# Altium footprint library SparkFun-PowerIC.PCBLIB: 69 footprints (part 3 of 5)
Each footprint in its own frame and in the unit in brackets; x right, y up, seen from the top. Pads: shape width x height; smd on the part's side, far side on the other; paste and mask are expansions set on the pad; w line width, h text height; cw(c..) or ccw(c..) is an arc to the next point about the centre after c.
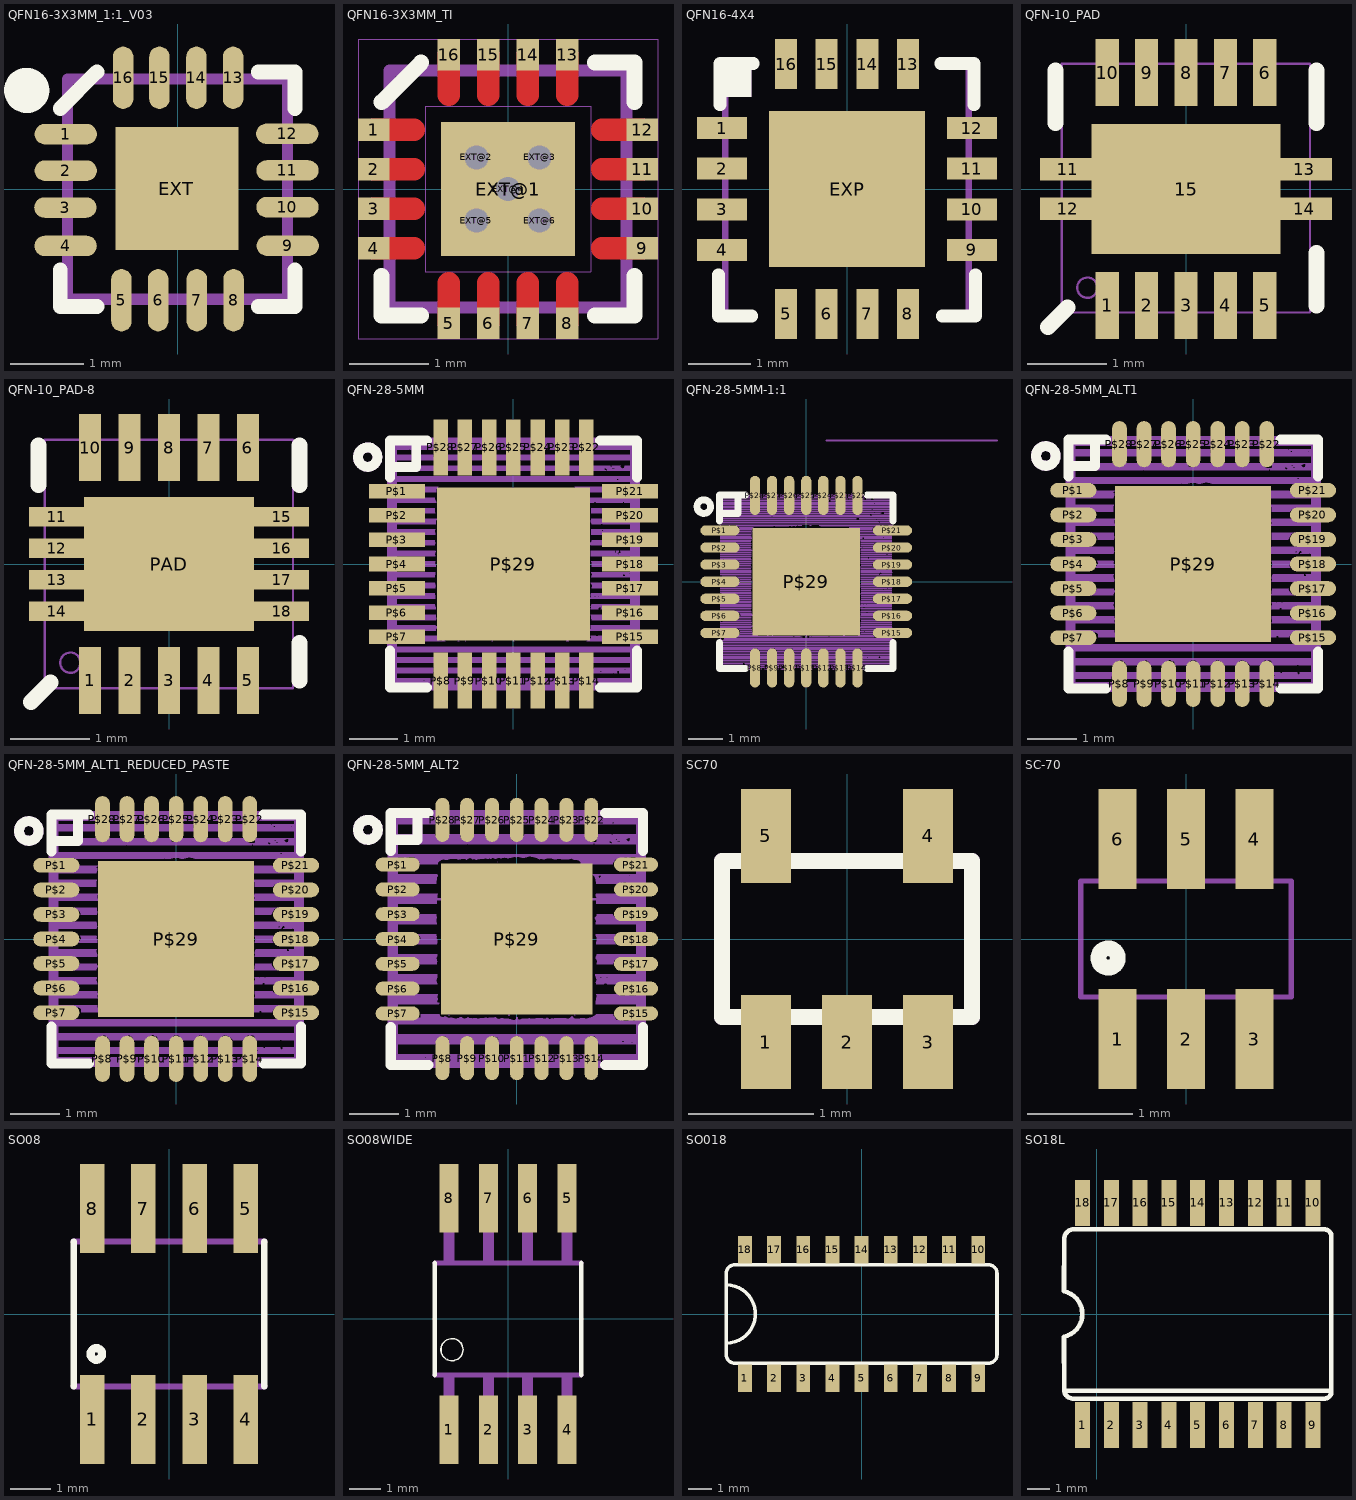
[diagram p2: the footprints below, top view; thin cyan lines are the x and y axes]

## QFN16-3X3MM_1:1_V03 [mm]
pads (17):
  rrect100% 0.85x0.28 smd: 1(-1.524,0.75) 2(-1.524,0.252) 3(-1.529,-0.25) 4(-1.527,-0.774) 9(1.503,-0.77) 10(1.498,-0.245) 11(1.498,0.255) 12(1.495,0.755)
  rrect100% 0.28x0.85 smd: 5(-0.765,-1.513) 6(-0.265,-1.513) 7(0.263,-1.513) 8(0.763,-1.513) 13(0.758,1.518) 14(0.258,1.518) 15(-0.247,1.518) 16(-0.742,1.518)
  rect 1.68x1.68 smd: EXT(-0.009,0.008)
Top Overlay:
  circle w0.406: c-2.057,1.346 r0.105
  lines w0.203: -1.6,-1.1 -1.6,-1.6 -1.1,-1.6 ; -1.6,1.1 -1.1,1.6 ; 1.1,-1.6 1.6,-1.6 1.6,-1.1 ; 1.1,1.6 1.6,1.6 1.6,1.1
Top Paste:
  rectangle: -0.305,-0.305 0.279,0.279
  lines w0.203: -1.853,-0.773 -1.407,-0.773 ; -1.853,-0.25 -1.406,-0.25 ; -1.851,0.252 -1.404,0.252 ; -1.85,0.751 -1.403,0.751 ; -0.765,-1.838 -0.765,-1.391 ; -0.742,1.396 -0.742,1.843 ; -0.265,-1.838 -0.265,-1.391 ; -0.247,1.399 -0.247,1.846 ; 0.258,1.399 0.258,1.846 ; 0.26,-1.838 0.26,-1.391 ; 0.758,1.396 0.758,1.843 ; 0.763,-1.841 0.763,-1.394 ; 1.399,-0.245 1.82,-0.245 ; 1.399,0.255 1.82,0.255 ; 1.402,0.755 1.818,0.755 ; 1.407,-0.768 1.828,-0.768
Mechanical 16:
  lines w0.152: -1.5,-1.5 -1.5,1.5 1.5,1.5 1.5,-1.5 -1.5,-1.5

## QFN16-3X3MM_TI [mm]
pads (22):
  rect 0.4x0.28 smd: 1(-1.7,0.75) 2(-1.7,0.25) 3(-1.7,-0.25) 4(-1.7,-0.75) 9(1.7,-0.75) 10(1.7,-0.25) 11(1.7,0.25) 12(1.7,0.75)
  rect 0.28x0.4 smd: 5(-0.75,-1.7) 6(-0.25,-1.7) 7(0.25,-1.7) 8(0.75,-1.7) 13(0.75,1.7) 14(0.25,1.7) 15(-0.25,1.7) 16(-0.75,1.7)
  rect 1.7x1.7 smd: EXT@1(0,0)
  oct 0.45x0.45 hole 0.3: EXT@2(-0.4,0.4) EXT@3(0.4,0.4) EXT@4(0,0) EXT@5(-0.4,-0.4) EXT@6(0.4,-0.4)
Top Layer:
  lines w0.28: -1.7,-0.75 -1.19,-0.75 ; -1.7,-0.25 -1.19,-0.25 ; -1.7,0.25 -1.19,0.25 ; -1.7,0.75 -1.19,0.75 ; -0.75,-1.7 -0.75,-1.19 ; -0.75,1.19 -0.75,1.7 ; -0.25,-1.7 -0.25,-1.19 ; -0.25,1.19 -0.25,1.7 ; 0.25,-1.7 0.25,-1.19 ; 0.25,1.19 0.25,1.7 ; 0.75,-1.7 0.75,-1.19 ; 0.75,1.19 0.75,1.7 ; 1.19,-0.75 1.7,-0.75 ; 1.19,-0.25 1.7,-0.25 ; 1.19,0.25 1.7,0.25 ; 1.19,0.75 1.7,0.75
Top Overlay:
  lines w0.203: -1.6,-1.1 -1.6,-1.6 -1.1,-1.6 ; -1.6,1.1 -1.1,1.6 ; 1.1,-1.6 1.6,-1.6 1.6,-1.1 ; 1.1,1.6 1.6,1.6 1.6,1.1
Top Paste:
  rectangle: 0.1,0.1 0.8,0.8
  rectangle: 0.1,-0.8 0.8,-0.1
  rectangle: -0.8,-0.8 -0.1,-0.1
  rectangle: -0.8,0.1 -0.1,0.8
  region: 0,0 0.254,0 0.254,0.254 0,0.254
  region: 0,0 0.254,0 0.254,0.254 0,0.254
  region: 0,0 0.254,0 0.254,0.254 0,0.254
  region: 0,0 0.254,0 0.254,0.254 0,0.254
  region: 0,0 0.254,0 0.254,0.254 0,0.254
  region: 0,0 0.254,0 0.254,0.254 0,0.254
  region: 0,0 0.254,0 0.254,0.254 0,0.254
  region: 0,0 0.254,0 0.254,0.254 0,0.254
  region: 0,0 0.254,0 0.254,0.254 0,0.254
  region: 0,0 0.254,0 0.254,0.254 0,0.254
  region: 0,0 0.254,0 0.254,0.254 0,0.254
  region: 0,0 0.254,0 0.254,0.254 0,0.254
  region: 0,0 0.254,0 0.254,0.254 0,0.254
  region: 0,0 0.254,0 0.254,0.254 0,0.254
  region: 0,0 0.254,0 0.254,0.254 0,0.254
  region: 0,0 0.254,0 0.254,0.254 0,0.254
Top Solder:
  rectangle: -0.93,-0.92 0.91,0.92
  region: 0,0 0.254,0 0.254,0.254 0,0.254
  region: 0,0 0.254,0 0.254,0.254 0,0.254
  region: 0,0 0.254,0 0.254,0.254 0,0.254
  region: 0,0 0.254,0 0.254,0.254 0,0.254
  region: 0,0 0.254,0 0.254,0.254 0,0.254
  region: 0,0 0.254,0 0.254,0.254 0,0.254
  region: 0,0 0.254,0 0.254,0.254 0,0.254
  region: 0,0 0.254,0 0.254,0.254 0,0.254
  region: 0,0 0.254,0 0.254,0.254 0,0.254
  region: 0,0 0.254,0 0.254,0.254 0,0.254
  region: 0,0 0.254,0 0.254,0.254 0,0.254
  region: 0,0 0.254,0 0.254,0.254 0,0.254
  region: 0,0 0.254,0 0.254,0.254 0,0.254
  region: 0,0 0.254,0 0.254,0.254 0,0.254
  region: 0,0 0.254,0 0.254,0.254 0,0.254
  region: 0,0 0.254,0 0.254,0.254 0,0.254
Mechanical 14:
  lines w0: -1.9,-1.9 1.9,-1.9 1.9,1.9 -1.9,1.9 -1.9,-1.9 ; -1.05,-1.05 -1.05,1.05 1.05,1.05 1.05,-1.05 -1.05,-1.05
Mechanical 16:
  lines w0.152: -1.5,-1.5 -1.5,1.5 1.5,1.5 1.5,-1.5 -1.5,-1.5

## QFN16-4X4 [mm]
pads (17):
  rect 0.8x0.35 smd: 1(-2,0.975) 2(-2,0.325) 3(-2,-0.325) 4(-2,-0.975) 9(2,-0.975) 10(2,-0.325) 11(2,0.325) 12(2,0.975)
  rect 0.35x0.8 smd: 5(-0.975,-2) 6(-0.325,-2) 7(0.325,-2) 8(0.975,-2) 13(0.975,2) 14(0.325,2) 15(-0.325,2) 16(-0.975,2)
  rect 2.5x2.5 smd: EXP(0,0)
Top Overlay:
  rectangle: -1.95,1.475 -1.525,1.925
  lines w0.203: -2.057,-1.372 -2.057,-2.032 -1.524,-2.032 ; -2.032,1.346 -2.032,2.007 -1.499,2.007 ; 1.499,2.007 2.032,2.007 2.032,1.346 ; 1.524,-2.032 2.057,-2.032 2.057,-1.372
Top Paste:
  rectangle: -1,0.2 -0.2,1
  rectangle: 0.2,0.2 1,1
  rectangle: 0.2,-1 1,-0.2
  rectangle: -1,-1 -0.2,-0.2
Top Solder:
  rectangle: -1.3,-1.3 1.3,1.3
Mechanical 16:
  rectangle: -1.95,1.475 -1.525,1.925
  lines w0.102: -1.95,-1.95 -1.95,1.925 ; 1.95,-1.95 1.95,1.925

## QFN-10_PAD [mm]
pads (15):
  rect 0.297x0.85 smd: 1(-1,-1.475) 2(-0.5,-1.475) 3(0,-1.475) 4(0.5,-1.475) 5(1,-1.475) 6(1,1.475) 7(0.5,1.475) 8(0,1.475) 9(-0.5,1.475) 10(-1,1.475)
  rect 0.7x0.28 smd: 11(-1.5,0.25) 12(-1.5,-0.25) 13(1.5,0.25) 14(1.5,-0.25)
  rect 2.4x1.65 smd: 15(0,0)
Top Overlay:
  lines w0.203: -1.75,-1.75 -1.5,-1.5 ; -1.651,0.838 -1.651,1.499 ; 1.651,-1.473 1.651,-0.813 ; 1.651,0.838 1.651,1.499
Top Paste:
  rectangle: -1.194,-0.432 1.194,0.432
  rectangle: -1.125,1.074 -0.876,1.88
  rectangle: -0.625,1.072 -0.376,1.877
  rectangle: -0.625,1.072 -0.376,1.877
  rectangle: -0.124,1.069 0.124,1.875
  rectangle: 0.376,1.072 0.625,1.877
  rectangle: 0.879,1.074 1.128,1.88
  rectangle: -1.125,-1.877 -0.876,-1.072
  rectangle: -0.625,-1.88 -0.376,-1.074
  rectangle: -0.124,-1.877 0.124,-1.072
  rectangle: 0.376,-1.872 0.625,-1.067
  rectangle: 0.876,-1.877 1.125,-1.072
Mechanical 16:
  circle w0.03: c-1.25,-1.25 r0.129
  lines w0.03: -1.575,-1.565 1.57,-1.565 1.57,1.585 -1.575,1.585 -1.575,-1.565

## QFN-10_PAD-8 [mm]
pads (19):
  rect 0.28x0.85 smd: 1(-1,-1.475) 2(-0.5,-1.475) 3(0,-1.475) 4(0.5,-1.475) 5(1,-1.475) 6(1,1.475) 7(0.5,1.475) 8(0,1.475) 9(-0.5,1.475) 10(-1,1.475)
  rect 0.7x0.25 smd: 11(-1.425,0.6) 12(-1.425,0.2) 13(-1.425,-0.2) 14(-1.425,-0.6) 15(1.425,0.6) 16(1.425,0.2) 17(1.425,-0.2) 18(1.425,-0.6)
  rect 2.15x1.7 smd: PAD(0,0)
Top Overlay:
  lines w0.203: -1.75,-1.75 -1.5,-1.5 ; -1.651,1 -1.651,1.499 ; 1.651,-1.473 1.651,-1 ; 1.651,1 1.651,1.499
Top Paste:
  rectangle: 0.11,0.11 1.01,0.76
  rectangle: 0.11,-0.76 1.01,-0.11
  rectangle: -1.01,0.11 -0.11,0.76
  rectangle: -1.01,-0.76 -0.11,-0.11
  rectangle: 1.16,-0.315 1.76,-0.085
  rectangle: 1.16,0.085 1.76,0.315
  rectangle: -1.76,0.085 -1.16,0.315
  rectangle: -1.76,-0.315 -1.16,-0.085
  rectangle: 1.16,0.485 1.76,0.715
  rectangle: 1.16,-0.715 1.76,-0.485
  rectangle: -1.76,0.485 -1.16,0.715
  rectangle: -1.76,-0.715 -1.16,-0.485
Mechanical 16:
  circle w0.03: c-1.25,-1.25 r0.129
  lines w0.03: -1.575,-1.575 1.57,-1.575 1.57,1.575 -1.575,1.575 -1.575,-1.575

## QFN-28-5MM [mm]
pads (29):
  rect 1.15x0.3 smd: P$1(-2.4,1.5) P$2(-2.4,1) P$3(-2.4,0.5) P$4(-2.4,0) P$5(-2.4,-0.5) P$6(-2.4,-1) P$7(-2.4,-1.5) P$15(2.4,-1.5) P$16(2.4,-1) P$17(2.4,-0.5) P$18(2.4,0) P$19(2.4,0.5) P$20(2.4,1) P$21(2.4,1.5)
  rect 0.3x1.15 smd: P$8(-1.5,-2.4) P$9(-1,-2.4) P$10(-0.5,-2.4) P$11(0,-2.4) P$12(0.5,-2.4) P$13(1,-2.4) P$14(1.5,-2.4) P$22(1.5,2.4) P$23(1,2.4) P$24(0.5,2.4) P$25(0,2.4) P$26(-0.5,2.4) P$27(-1,2.4) P$28(-1.5,2.4)
  rect 3.15x3.15 smd: P$29(0,0)
Top Overlay:
  circle w0.203: c-3,2.2 r0.2
  lines w0.203: -2.54,-1.778 -2.54,-2.54 -1.778,-2.54 ; -2.54,1.778 -2.54,2.54 -1.778,2.54 ; -2.5,2 -2,2 -2,2.5 ; 1.778,-2.54 2.54,-2.54 2.54,-1.778 ; 1.778,2.54 2.54,2.54 ; 2.54,1.778 2.54,2.5
Top Paste:
  rectangle: -1.016,0.254 -0.254,1.016
  rectangle: 0.254,0.254 1.016,1.016
  rectangle: -1.016,-1.016 -0.254,-0.254
  rectangle: 0.254,-1.016 1.016,-0.254
Mechanical 16:
  circle w0.203: c-3,2.2 r0.2
  lines w0.203: -2.5,2 -2.5,2.5 -2,2.5 ; -2.5,2 -2.5,-2.5 2.5,-2.5 2.5,2.5 -2,2.5 ; -2.5,2 -2,2 -2,2.5
Mech82:
  drawing of 2255 lines, arcs and shapes, not listed

## QFN-28-5MM-1:1 [mm]
pads (29):
  rrect100% 1.15x0.3 smd: P$1(-2.527,1.5) P$2(-2.527,1) P$3(-2.527,0.5) P$4(-2.527,0) P$5(-2.527,-0.5) P$6(-2.527,-1) P$7(-2.527,-1.5) P$15(2.527,-1.5) P$16(2.527,-1) P$17(2.527,-0.5) P$18(2.527,0) P$19(2.527,0.5) P$20(2.527,1) P$21(2.527,1.5)
  rrect100% 0.3x1.15 smd: P$8(-1.5,-2.527) P$9(-1,-2.527) P$10(-0.5,-2.527) P$11(0,-2.527) P$12(0.5,-2.527) P$13(1,-2.527) P$14(1.5,-2.527) P$22(1.5,2.527) P$23(1,2.527) P$24(0.5,2.527) P$25(0,2.527) P$26(-0.5,2.527) P$27(-1,2.527) P$28(-1.5,2.527)
  rect 3.15x3.15 smd: P$29(0,0)
Top Overlay:
  circle w0.203: c-3,2.2 r0.2
  lines w0.203: -2.54,-1.778 -2.54,-2.54 -1.778,-2.54 ; -2.54,1.778 -2.54,2.54 -1.778,2.54 ; -2.5,2 -2,2 -2,2.5 ; 1.778,-2.54 2.54,-2.54 2.54,-1.778 ; 1.778,2.54 2.54,2.54 ; 2.54,1.778 2.54,2.5
Top Paste:
  rectangle: -1.016,0.254 -0.254,1.016
  rectangle: 0.254,0.254 1.016,1.016
  rectangle: -1.016,-1.016 -0.254,-0.254
  rectangle: 0.254,-1.016 1.016,-0.254
Mechanical 14:
  lines w0.051: 0.584,4.139 5.588,4.139
Mech82:
  drawing of 3628 lines, arcs and shapes, not listed

## QFN-28-5MM_ALT1 [mil]
pads (29):
  rrect100% 37x11.81 smd: P$1(-96.06,59.06) P$2(-96.06,39.37) P$3(-96.06,19.69) P$4(-96.06,0) P$5(-96.06,-19.69) P$6(-96.06,-39.37) P$7(-96.06,-59.06) P$15(96.06,-59.06) P$16(96.06,-39.37) P$17(96.06,-19.69) P$18(96.06,0) P$19(96.06,19.69) P$20(96.06,39.37) P$21(96.06,59.06)
  rrect100% 11.81x37 smd: P$8(-59.06,-96.06) P$9(-39.37,-96.06) P$10(-19.69,-96.06) P$11(0,-96.06) P$12(19.69,-96.06) P$13(39.37,-96.06) P$14(59.06,-96.06) P$22(59.06,96.06) P$23(39.37,96.06) P$24(19.69,96.06) P$25(0,96.06) P$26(-19.69,96.06) P$27(-39.37,96.06) P$28(-59.06,96.06)
  rect 125x125 smd: P$29(0,0)
Top Overlay:
  circle w8: c-118.11,86.61 r7.87
  lines w8: -100,-70 -100,-100 -70,-100 ; -100,70 -100,100 -70,100 ; -98.43,78.74 -78.74,78.74 -78.74,98.43 ; 70,-100 100,-100 100,-70 ; 70,100 100,100 ; 100,70 100,98.43
Top Paste:
  region: 13.5,-13.5 13.5,13.5 -13.5,13.5 -13.5,-13.5
Mechanical 14:
  lines w1.97: -101.22,31.58 95.63,31.58
Mechanical 16:
  circle w8: c-118.11,86.61 r7.87
  lines w8: -98.43,78.74 -98.43,98.43 -78.74,98.43 ; -98.43,78.74 -98.43,-98.43 98.43,-98.43 98.43,98.43 -78.74,98.43 ; -98.43,78.74 -78.74,78.74 -78.74,98.43
Mech82:
  drawing of 2254 lines, arcs and shapes, not listed

## QFN-28-5MM_ALT1_REDUCED_PASTE [mil]
pads (29):
  rrect100% 37x11.81 smd: P$1(-96.06,59.06) P$2(-96.06,39.37) P$3(-96.06,19.69) P$4(-96.06,0) P$5(-96.06,-19.69) P$6(-96.06,-39.37) P$7(-96.06,-59.06) P$15(96.06,-59.06) P$16(96.06,-39.37) P$17(96.06,-19.69) P$18(96.06,0) P$19(96.06,19.69) P$20(96.06,39.37) P$21(96.06,59.06)
  rrect100% 11.81x37 smd: P$8(-59.06,-96.06) P$9(-39.37,-96.06) P$10(-19.69,-96.06) P$11(0,-96.06) P$12(19.69,-96.06) P$13(39.37,-96.06) P$14(59.06,-96.06) P$22(59.06,96.06) P$23(39.37,96.06) P$24(19.69,96.06) P$25(0,96.06) P$26(-19.69,96.06) P$27(-39.37,96.06) P$28(-59.06,96.06)
  rect 125x125 smd: P$29(0,0)
Top Overlay:
  circle w8: c-118.11,86.61 r7.87
  lines w8: -100,-70 -100,-100 -70,-100 ; -100,70 -100,100 -70,100 ; -98.43,78.74 -78.74,78.74 -78.74,98.43 ; 70,-100 100,-100 100,-70 ; 70,100 100,100 ; 100,70 100,98.43
Top Paste:
  rectangle: -32.7,-33.4 -11.4,-12.5
  rectangle: 11.6,-33.3 32.9,-12.4
  rectangle: -33.1,13.1 -11.8,34
  rectangle: 12.8,14 34.1,34.9
  lines w10: -105.9,19.8 -83.7,19.8 ; -105.8,-59 -83.6,-59 ; -105.8,-19.5 -83.6,-19.5 ; -105.8,0.1 -83.6,0.1 ; -105.7,39.5 -83.5,39.5 ; -105.6,-39.2 -83.4,-39.2 ; -105.6,59.3 -83.4,59.3 ; -59.2,-105.2 -59.2,-83 ; -59.2,83.4 -59.2,105.6 ; -39.4,-105.4 -39.4,-83.2 ; -39.4,83.2 -39.4,105.4 ; -19.7,-105.2 -19.7,-83 ; -19.7,83.4 -19.7,105.6 ; -0.1,-105.2 -0.1,-83 ; -0.1,83.4 -0.1,105.6 ; 19.6,-105.1 19.6,-82.9 ; 19.6,83.5 19.6,105.7 ; 39.3,-105.3 39.3,-83.1 ; 39.3,83.3 39.3,105.5 ; 59.1,-105.4 59.1,-83.2 ; 59.1,83.2 59.1,105.4 ; 83,19.7 105.2,19.7 ; 83.1,-59.1 105.3,-59.1 ; 83.1,-19.6 105.3,-19.6 ; 83.1,0 105.3,0 ; 83.2,39.4 105.4,39.4 ; 83.3,-39.3 105.5,-39.3 ; 83.3,59.2 105.5,59.2
Mechanical 14:
  lines w1.97: -101.22,31.58 95.63,31.58
Mechanical 16:
  circle w8: c-118.11,86.61 r7.87
  lines w8: -98.43,78.74 -98.43,98.43 -78.74,98.43 ; -98.43,78.74 -98.43,-98.43 98.43,-98.43 98.43,98.43 -78.74,98.43 ; -98.43,78.74 -78.74,78.74 -78.74,98.43
Mech82:
  drawing of 2254 lines, arcs and shapes, not listed

## QFN-28-5MM_ALT2 [mil]
pads (29):
  rrect100% 35x11.02 smd: P$1(-94.52,59.06) P$2(-94.52,39.37) P$3(-94.52,19.69) P$4(-94.52,0) P$5(-94.52,-19.69) P$6(-94.52,-39.37) P$7(-94.52,-59.06) P$15(94.52,-59.06) P$16(94.52,-39.37) P$17(94.52,-19.69) P$18(94.52,0) P$19(94.52,19.69) P$20(94.52,39.37) P$21(94.52,59.06)
  rrect100% 11.02x35 smd: P$8(-59.06,-94.52) P$9(-39.37,-94.52) P$10(-19.69,-94.52) P$11(0,-94.52) P$12(19.69,-94.52) P$13(39.37,-94.52) P$14(59.06,-94.52) P$22(59.06,94.52) P$23(39.37,94.52) P$24(19.69,94.52) P$25(0,94.52) P$26(-19.69,94.52) P$27(-39.37,94.52) P$28(-59.06,94.52)
  rect 120x120 smd: P$29(0,0)
Top Overlay:
  circle w8: c-118.11,86.61 r7.87
  lines w8: -100,-70 -100,-100 -70,-100 ; -100,70 -100,100 -70,100 ; -98.43,78.74 -78.74,78.74 -78.74,98.43 ; 70,-100 100,-100 100,-70 ; 70,100 100,100 ; 100,70 100,98.43
Top Paste:
  rectangle: -55,5 -5,55
  rectangle: 5,5 55,55
  rectangle: -55,-55 -5,-5
  rectangle: 5,-55 55,-5
Mechanical 14:
  lines w1.97: -98.72,31.58 98.13,31.58
Mechanical 16:
  circle w8: c-118.11,86.61 r7.87
  lines w8: -98.43,78.74 -98.43,98.43 -78.74,98.43 ; -98.43,78.74 -98.43,-98.43 98.43,-98.43 98.43,98.43 -78.74,98.43 ; -98.43,78.74 -78.74,78.74 -78.74,98.43
Mech82:
  drawing of 2255 lines, arcs and shapes, not listed

## SC70 [mm]
pads (5):
  rect 0.4x0.75 smd: 1(-0.65,-0.825) 2(0,-0.825) 3(0.65,-0.825) 4(0.65,0.825) 5(-0.65,0.825)
Top Overlay:
  lines w0.127: -1,-0.625 1,-0.625 1,0.625 -1,0.625 -1,-0.625
Top Paste:
  rectangle: -0.85,0.45 -0.45,1.2
  rectangle: 0.45,0.45 0.85,1.2
  rectangle: -0.838,-1.168 -0.508,-0.483
  rectangle: -0.165,-1.168 0.165,-0.483
  rectangle: 0.508,-1.168 0.838,-0.483
Mechanical 16:
  lines w0.127: -1,-0.625 -1,0.625 1,0.625 1,-0.625 ; -1,-0.625 1,-0.625 ; -1,-0.625 1,-0.625

## SC-70 [mm]
pads (6):
  rect 0.36x0.95 smd: 1(-0.65,-0.95) 2(0,-0.95) 3(0.65,-0.95) 4(0.65,0.95) 5(0,0.95) 6(-0.65,0.95)
Top Overlay:
  circle w0.15: c-0.74,-0.18 r0.092
Mechanical 16:
  lines w0.05: -1,-0.55 1,-0.55 1,0.55 -1,0.55 -1,-0.55

## SO08 [mil]
pads (8):
  rect 24x87 smd: 1(-75,-103) 2(-25,-103) 3(25,-103) 4(75,-103) 5(75,103) 6(25,103) 7(-25,103) 8(-75,103)
Top Overlay:
  circle w8: c-71,-39 r5.65
  lines w6: -92.99,-70.98 -92.99,70.98 ; 92.99,-70.98 92.99,70.98
Mechanical 16:
  rectangle: -82,-113 -68,-73
  rectangle: -32,-113 -18,-73
  rectangle: 18,-113 32,-73
  rectangle: 68,-113 82,-73
  rectangle: -82,73 -68,113
  rectangle: -32,73 -18,113
  rectangle: 18,73 32,113
  rectangle: 68,73 82,113
  lines w6: -92.99,-70.98 92.99,-70.98 ; -92.99,70.98 92.99,70.98

## SO08WIDE [mil]
pads (8):
  rect 24x87 smd: 1(-75,-140.5) 2(-25,-140.5) 3(25,-140.5) 4(75,-140.5) 5(75,153) 6(25,153) 7(-25,153) 8(-75,153)
Top Overlay:
  circle w2: c-71,-39 r14
  lines w6: -92.99,-70.98 -92.99,70.98 ; 92.99,-70.98 92.99,70.98
Mechanical 16:
  rectangle: -82,-113 -68,-73
  rectangle: -32,-113 -18,-73
  rectangle: 18,-113 32,-73
  rectangle: 68,-113 82,-73
  rectangle: -82,73 -68,113
  rectangle: -32,73 -18,113
  rectangle: 18,73 32,113
  rectangle: 68,73 82,113
  lines w6: -92.99,-70.98 92.99,-70.98 ; -92.99,70.98 92.99,70.98

## SO018 [mm]
pads (18):
  rect 0.6x1.2 smd: 1(-5.08,-2.8) 2(-3.81,-2.8) 3(-2.54,-2.8) 4(-1.27,-2.8) 5(0,-2.8) 6(1.27,-2.8) 7(2.54,-2.8) 8(3.81,-2.8) 9(5.08,-2.8) 10(5.08,2.8) 11(3.81,2.8) 12(2.54,2.8) 13(1.27,2.8) 14(0,2.8) 15(-1.27,2.8) 16(-2.54,2.8) 17(-3.81,2.8) 18(-5.08,2.8)
Top Overlay:
  rectangle: -5.334,-2.273 -4.826,-2.146
  rectangle: -4.064,-2.273 -3.556,-2.146
  rectangle: -2.794,-2.273 -2.286,-2.146
  rectangle: -1.524,-2.273 -1.016,-2.146
  rectangle: -0.254,-2.273 0.254,-2.146
  rectangle: 1.016,-2.273 1.524,-2.146
  rectangle: 2.286,-2.273 2.794,-2.146
  rectangle: 3.556,-2.273 4.064,-2.146
  rectangle: -5.334,2.146 -4.826,2.273
  rectangle: -4.064,2.146 -3.556,2.273
  rectangle: -2.794,2.146 -2.286,2.273
  rectangle: -1.524,2.146 -1.016,2.273
  rectangle: -0.254,2.146 0.254,2.273
  rectangle: 1.016,2.146 1.524,2.273
  rectangle: 2.286,2.146 2.794,2.273
  rectangle: 3.556,2.146 4.064,2.273
  lines w0.152: -5.893,-1.27 ccw(c-5.893,0) -5.893,1.27 ; -5.893,-1.765 ccw(c-5.512,-1.765) -5.512,-2.146 5.512,-2.146 ccw(c5.512,-1.765) 5.893,-1.765 5.893,1.765 ccw(c5.512,1.765) 5.512,2.146 -5.512,2.146 ccw(c-5.512,1.765) -5.893,1.765 -5.893,-1.765

## SO18L [mil]
pads (18):
  rect 26x80 smd: 1(-25,-193) 2(25,-193) 3(75,-193) 4(125,-193) 5(175,-193) 6(225,-193) 7(275,-193) 8(325,-193) 9(375,-193) 10(375,193) 11(325,193) 12(275,193) 13(225,193) 14(175,193) 15(125,193) 16(75,193) 17(25,193) 18(-25,193)
Top Overlay:
  lines w8: -52.24,-133 404,-133 ; -57.09,-39.37 -57,-132 ccw(c-41,-131) -40,-147 394,-147 ccw(c394.51,-134.51) 407,-135 407,135 ccw(c394.51,134.51) 394,147 -40,147 ccw(c-40,130) -57,130 -57.09,39.37 cw(c-65.48,0) -57.09,-39.37